# Altium footprint library Power Inductor.PcbLib: 5 footprints
Each footprint in its own frame and in the unit in brackets; x right, y up, seen from the top. Pads: shape width x height; smd on the part's side, far side on the other; paste and mask are expansions set on the pad; w line width, h text height; cw(c..) or ccw(c..) is an arc to the next point about the centre after c.
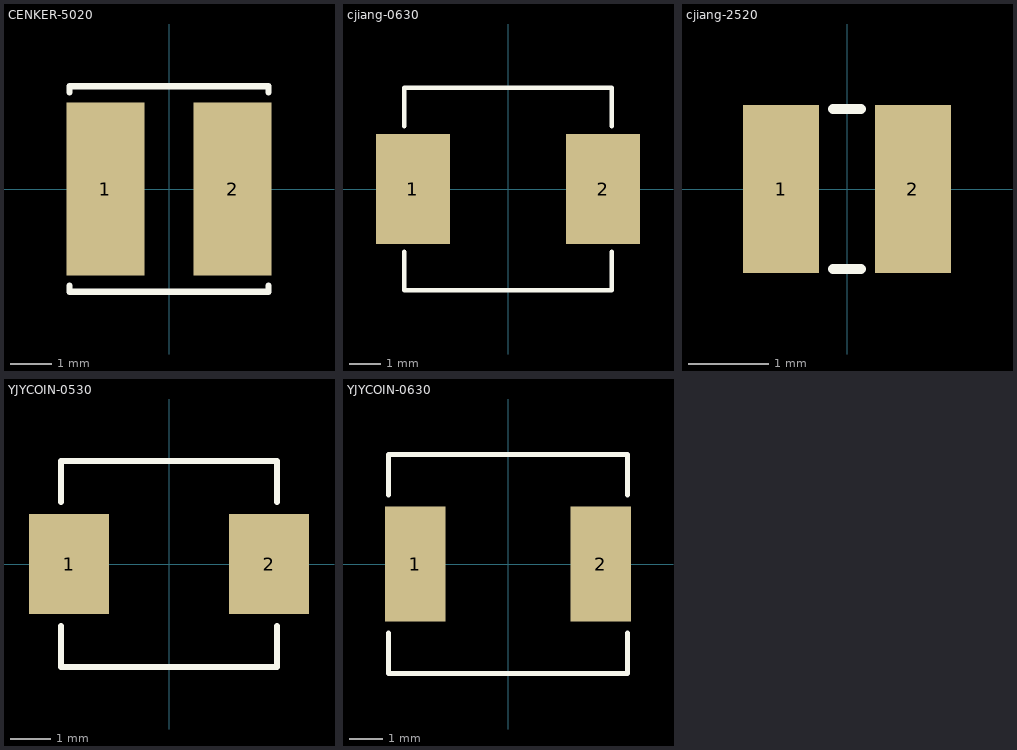
[diagram p0: the footprints below, top view; thin cyan lines are the x and y axes]

## CENKER-5020 [mm] "YJYCOIN(益嘉源) 5020 推荐焊盘 非一体成型"
pads (2):
  rect 1.9x4.2 smd: 1(-1.55,0) 2(1.55,0)
Top Overlay:
  lines w0.15: -2.425,-2.35 -2.425,-2.5 2.425,-2.5 2.425,-2.35 ; -2.425,2.35 -2.425,2.5 2.425,2.5 2.425,2.35
3D body "CKCS5020.STEP": height 2.11, standoff 0, extent -2.51,-2.5 2.51,2.5

## cjiang-0630 [mm] "cjiang(长江微电) 0630 推荐焊盘"
pads (2):
  rect 2.35x3.5 smd: 1(-3.025,0) 2(3.025,0)
Top Overlay:
  lines w0.15: -3.3,-2 -3.3,-3.225 3.3,-3.225 3.3,-2 ; -3.3,2 -3.3,3.225 3.3,3.225 3.3,2
3D body "FXL0630.STEP": height 3.05, standoff 0, extent -3.71,-3.4 3.71,3.4

## cjiang-2520 [mm] "cjiang(长江微电) 2520 推荐焊盘 （高度未作区分，封装都相同）"
pads (2):
  rect 0.95x2.1 smd: 1(-0.825,0) 2(0.825,0)
Top Overlay:
  lines w0.127: -0.175,-1 0.175,-1 ; -0.175,1 0.175,1
3D body "FTC2520.STEP": height 1.21, standoff 0, extent -1.25,-1 1.25,1

## YJYCOIN-0530 [mm] "YJYCOIN(益嘉源) 5020 推荐焊盘  5.2*5.4mm 暂时缺模型"
pads (2):
  rect 2x2.5 smd: 1(-2.5,0) 2(2.5,0)
Top Overlay:
  lines w0.15: -2.7,-1.55 -2.7,-2.575 2.7,-2.575 2.7,-1.55 ; -2.7,1.55 -2.7,2.575 2.7,2.575 2.7,1.55
3D body "0530_5.4x5.2.STEP": height 3, standoff 0, extent -2.7,-2.6 2.7,2.6

## YJYCOIN-0630 [mm] "YJYCOIN(益嘉源) 0630 推荐焊盘  借用了其他的模型，模型尺寸是6.6*7.2，实际是6.6*7.1"
pads (2):
  rect 1.8x3.4 smd: 1(-2.75,0) 2(2.75,0)
Top Overlay:
  lines w0.15: -3.55,-2.05 -3.55,-3.25 3.55,-3.25 3.55,-2.05 ; -3.55,2.05 -3.55,3.25 3.55,3.25 3.55,2.05
3D body "0630_6.6x7.1.STEP": height 3, standoff 0, extent -3.55,-3.3 3.55,3.3